# Altium integrated library ON Semi Signal Management Operational Amplifiers.IntLib: 435 symbols (part 1 of 12)
Pins are listed as number, name and electrical type; pins without a type are passive.

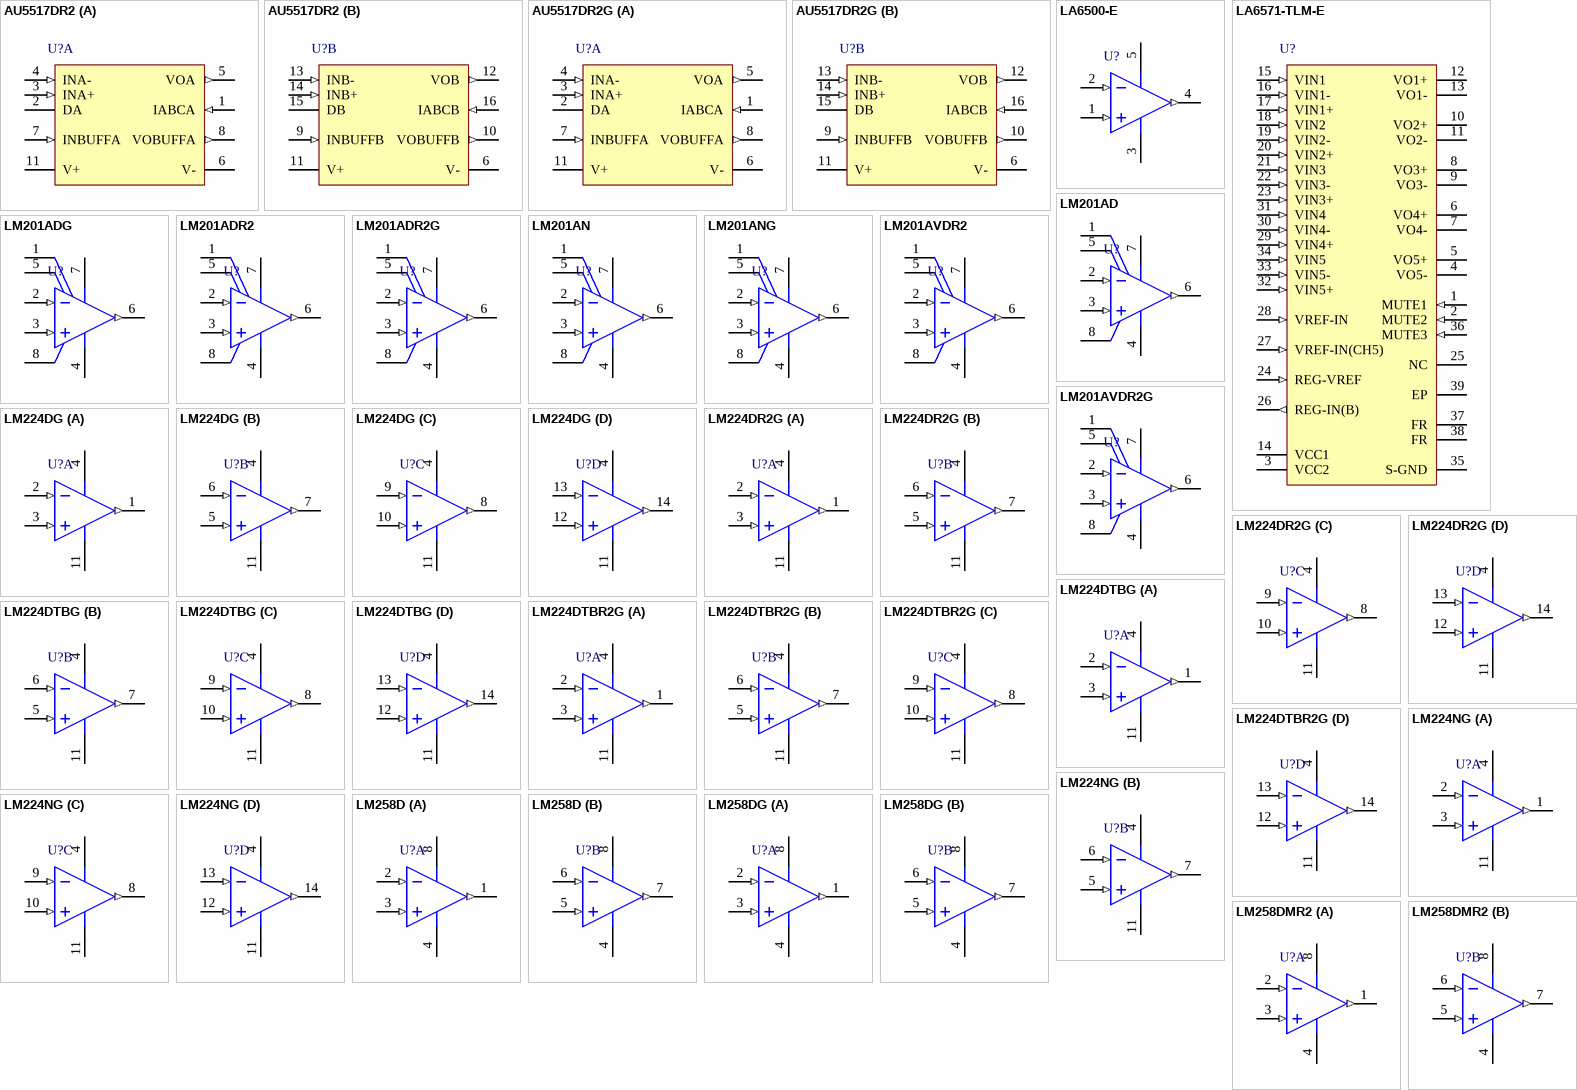
[diagram p0: symbols AU5517DR2 to LM258DMR2]

## AU5517DR2
designator U?
Dual Operational Transconductance Amplifier, -40 to 125 degC, 16-Pin SOIC, Tape and Reel; Manufacturer: On Semiconductor; PartNumber: AU5517DR2; GBW Typ (MHz): 2; SR Typ (V/uS): 50; DatasheetVersion: Rev. 4; PackageVersion: Rev. K, 12/2006; PackageReference: SOIC-16-751B-05; PackageDescription: 16-Pin Small Outline Integrated Circuit, Body 9.9 x 3.9 mm, Pitch 1.27 mm; Packing: Tape and Reel; RoHS: FALSE; Mounting Technology: Surface Mount; ComponentLink1Description: Manufacturer URL; ComponentLink1URL: http://www.onsemi.com/; ComponentLink2Description: Datasheet; ComponentLink2URL: http://www.onsemi.cn/pub_link/Collateral/NE5517-D.PDF; ComponentLink3Description: Package Specification; ComponentLink3URL: http://www.onsemi.com/pub_link/Collateral/751B-05.PDF
footprint ONSC-SOIC-16-751B-05_V (SOIC, 16-Leads, Body 10x4mm, Pitch 1.27mm)
pins on every part: 6 V- (power) "Negative Supply", 11 V+ (power) "Positive Supply"
part A pins: 1 IABCA (in) "Amplifier Bias Input A", 2 DA "Diode Bias A", 3 INA+ (in) "Non-inverted Input A", 4 INA- (in) "Inverted Input A", 5 VOA (out) "Output A", 7 INBUFFA (in) "Buffer Input A", 8 VOBUFFA (out) "Buffer Output A"
part B pins: 9 INBUFFB (in) "Buffer Input B", 10 VOBUFFB (out) "Buffer Output B", 12 VOB (out) "Output B", 13 INB- (in) "Inverted Input B", 14 INB+ (in) "Non-inverted Input B", 15 DB "Diode Bias B", 16 IABCB (in) "Amplifier Bias Input B"

## AU5517DR2G
designator U?
Dual Operational Transconductance Amplifier, -40 to 125 degC, 16-Pin SOIC, Pb-Free, Tape and Reel; Manufacturer: On Semiconductor; PartNumber: AU5517DR2G; GBW Typ (MHz): 2; SR Typ (V/uS): 50; DatasheetVersion: Rev. 4; PackageVersion: Rev. K, 12/2006; PackageReference: SOIC-16-751B-05; PackageDescription: 16-Pin Small Outline Integrated Circuit, Body 9.9 x 3.9 mm, Pitch 1.27 mm; Supplier 1: Digi-Key; Supplier Part Number 1: AU5517DR2GOSTR-ND; Supplier 2: Digi-Key; Supplier Part Number 2: AU5517DR2GOSCT-ND; Supplier 3: Mouser; Supplier Part Number 3: 863-AU5517DR2G; Packing: Tape and Reel; RoHS: TRUE; Mounting Technology: Surface Mount; ComponentLink1Description: Manufacturer URL; ComponentLink1URL: http://www.onsemi.com/; ComponentLink2Description: Datasheet; ComponentLink2URL: http://www.onsemi.cn/pub_link/Collateral/NE5517-D.PDF; ComponentLink3Description: Package Specification; ComponentLink3URL: http://www.onsemi.com/pub_link/Collateral/751B-05.PDF
footprint ONSC-SOIC-16-751B-05_V (SOIC, 16-Leads, Body 10x4mm, Pitch 1.27mm)
pins on every part: 6 V- (power) "Negative Supply", 11 V+ (power) "Positive Supply"
part A pins: 1 IABCA (in) "Amplifier Bias Input A", 2 DA "Diode Bias A", 3 INA+ (in) "Non-inverted Input A", 4 INA- (in) "Inverted Input A", 5 VOA (out) "Output A", 7 INBUFFA (in) "Buffer Input A", 8 VOBUFFA (out) "Buffer Output A"
part B pins: 9 INBUFFB (in) "Buffer Input B", 10 VOBUFFB (out) "Buffer Output B", 12 VOB (out) "Output B", 13 INB- (in) "Inverted Input B", 14 INB+ (in) "Non-inverted Input B", 15 DB "Diode Bias B", 16 IABCB (in) "Amplifier Bias Input B"

## LA6500-E
designator U?
Power Operational Amplifier, -20 to 75 degC, 5-Pin TO-220, Pb-Free, Fan-Fold; Manufacturer: On Semiconductor; PartNumber: LA6500-E; SR Typ (V/uS): 0.15; DatasheetVersion: Rev. 0; PackageVersion: Rev. A, 10/2013; PackageReference: TO-220-5H-5-221AJ; PackageDescription: 5-Pin Flange Mount, Body 10 x 4.5 mm, Pitch 1.7 mm; Supplier 1: Digi-Key; Supplier Part Number 1: LA6500-E-ND; Supplier 2: Newark; Supplier Part Number 2: 52T7913; Supplier 3: Mouser; Supplier Part Number 3: 863-LA6500-E; Packing: Fan-Fold; RoHS: TRUE; Mounting Technology: Through Hole; ComponentLink1Description: Manufacturer URL; ComponentLink1URL: http://www.onsemi.com/; ComponentLink2Description: Datasheet; ComponentLink2URL: http://www.onsemi.cn/pub_link/Collateral/LA6500-D.PDF; ComponentLink3Description: Package Specification; ComponentLink3URL: http://www.onsemi.cn/pub_link/Collateral/221AJ.PDF
footprint ONSC-TO-220-5H-5-221AJ (FM, 5-Leads, Body 10.2x4.7mm, Pitch 1.7mm)
pins: 1 VIN+ (in), 2 VIN- (in), 3 VEE (power), 4 OUT (out), 5 VCC (power)

## LA6571-TLM-E
designator U?
5 CH Driver for Mini Disk and Compact Disk, -30 to 85 degC, 36-Pin HSOP36R, Pb-Free, Tape and Reel; Manufacturer: On Semiconductor; PartNumber: LA6571-TLM-E; SR Typ (V/uS): 0.5; DatasheetVersion: Rev. 0; PackageVersion: Jun-13; PackageReference: HSOP36R-36; PackageDescription: 36-Pin Small Outline Package, Body 17.8 x 7.9 mm, Pitch 0.8 mm; Supplier 1: Digi-Key; Supplier Part Number 1: LA6571-TLM-E-ND; Supplier 2: Mouser; Supplier Part Number 2: 863-LA6571-TLM-E; Packing: Tape and Reel; RoHS: TRUE; Mounting Technology: Surface Mount; ComponentLink1Description: Manufacturer URL; ComponentLink1URL: http://www.onsemi.com/; ComponentLink2Description: Datasheet; ComponentLink2URL: http://www.onsemi.com/pub_link/Collateral/EN7739-D.PDF; ComponentLink3Description: Package Specification; ComponentLink3URL: http://www.onsemi.cn/pub_link/Collateral/EN7739-D.PDF
footprint ONSC-HSOP36R-36_N (SOP, 36-Leads, Body 17.8x7.9mm, Pitch 0.8mm, Thermal Pad 6.2x4.9mm, IPC Medium Density)
footprint ONSC-HSOP36R-36_L (SOP, 36-Leads, Body 17.8x7.9mm, Pitch 0.8mm, Thermal Pad 6.2x4.9mm, IPC High Density)
footprint ONSC-HSOP36R-36_M (SOP, 36-Leads, Body 17.8x7.9mm, Pitch 0.8mm, Thermal Pad 6.2x4.9mm, IPC Low Density)
pins: 1 MUTE1 (in) "Turns ON/OFF  the output for MUTE1:CH1,2  MUTE2:CH3, 4 and MUTE3:CH5.Each MUTE operates independently.MUTE:H output ON MUTE: L output OFF  With the output OFF,the output has a high impedance.", 2 MUTE2 (in) "Turns ON/OFF  the output for MUTE1:CH1,2  MUTE2:CH3, 4 and MUTE3:CH5.Each MUTE operates independently.MUTE:H output ON MUTE: L output OFF  With the output OFF,the output has a high impedance.", 3 VCC2 (power), 4 VO5- (hiz) "Each output", 5 VO5+ (hiz) "Each output", 6 VO4+ (hiz) "Each output", 7 VO4- (hiz) "Each output", 8 VO3+ (hiz) "Each output", 9 VO3- (hiz) "Each output", 10 VO2+ (hiz) "Each output", 11 VO2- (hiz) "Each output", 12 VO1+ (hiz) "Each output", 13 VO1- (hiz) "Each output", 14 VCC1 (power), 15 VIN1 (in) "Each input pin", 16 VIN1- (in) "Each input pin", 17 VIN1+ (in) "Each input pin", 18 VIN2 (in) "Each input pin", 19 VIN2- (in) "Each input pin", 20 VIN2+ (in) "Each input pin", 21 VIN3 (in) "Each input pin", 22 VIN3- (in) "Each input pin", 23 VIN3+ (in) "Each input pin", 24 REG-VREF (in), 25 NC, 26 REG-IN(B) (out), 27 VREF-IN(CH5) (in), 28 VREF-IN (in), 29 VIN4+ (in) "Each input pin", 30 VIN4- (in) "Each input pin", 31 VIN4 (in) "Each input pin", 32 VIN5+ (in) "Each input pin", 33 VIN5- (in) "Each input pin", 34 VIN5 (in) "Each input pin", 35 S-GND (power), 36 MUTE3 (in) "Turns ON/OFF  the output for MUTE1:CH1,2  MUTE2:CH3, 4 and MUTE3:CH5.Each MUTE operates independently.MUTE:H output ON MUTE: L output OFF  With the output OFF,the output has a high impedance.", 37 FR (power), 38 FR (power), 39 EP

## LM201AD
designator U?
Non Compensated Single Operational Amplifier, -25 to 85 degC, 8-Pin SOIC, Tube; Manufacturer: On Semiconductor; PartNumber: LM201AD; DatasheetVersion: Rev. 11; PackageVersion: Rev. AK, 02/2011; PackageReference: SOIC-8-751-07; PackageDescription: 8-Pin Small Outline Integrated Circuit, Body 4.9 x 3.9 mm, Pitch 1.27 mm; Packing: Tube; RoHS: FALSE; Mounting Technology: Surface Mount; ComponentLink1Description: Manufacturer URL; ComponentLink1URL: http://www.onsemi.com/; ComponentLink2Description: Datasheet; ComponentLink2URL: http://www.onsemi.cn/pub_link/Collateral/LM301A-D.PDF; ComponentLink3Description: Package Specification; ComponentLink3URL: http://www.onsemi.com/pub_link/Collateral/751-07.PDF
footprint ONSC-SOIC-8-751-07_V (SOIC, 8-Leads, Body 4.9x3.9mm, Pitch 1.27mm)
pins: 1 BALANCE, 2 IN- (in), 3 IN+ (in), 4 VEE (power), 5 BALANCE, 6 OUT (out), 7 VCC (power), 8 COMPENSATION

## LM201ADG
designator U?
Non Compensated Single Operational Amplifier, -25 to 85 degC, 8-Pin SOIC, Pb-Free, Tube; Manufacturer: On Semiconductor; PartNumber: LM201ADG; DatasheetVersion: Rev. 11; PackageVersion: Rev. AK, 02/2011; PackageReference: SOIC-8-751-07; PackageDescription: 8-Pin Small Outline Integrated Circuit, Body 4.9 x 3.9 mm, Pitch 1.27 mm; Supplier 1: Digi-Key; Supplier Part Number 1: LM201ADGOS-ND; Supplier 2: Farnell; Supplier Part Number 2: 1345337; Supplier 3: Newark; Supplier Part Number 3: 41K9832; Supplier 4: Mouser; Supplier Part Number 4: 863-LM201ADG; Packing: Tube; RoHS: TRUE; Mounting Technology: Surface Mount; ComponentLink1Description: Manufacturer URL; ComponentLink1URL: http://www.onsemi.com/; ComponentLink2Description: Datasheet; ComponentLink2URL: http://www.onsemi.cn/pub_link/Collateral/LM301A-D.PDF; ComponentLink3Description: Package Specification; ComponentLink3URL: http://www.onsemi.com/pub_link/Collateral/751-07.PDF
footprint ONSC-SOIC-8-751-07_V (SOIC, 8-Leads, Body 4.9x3.9mm, Pitch 1.27mm)
pins: 1 BALANCE, 2 IN- (in), 3 IN+ (in), 4 VEE (power), 5 BALANCE, 6 OUT (out), 7 VCC (power), 8 COMPENSATION

## LM201ADR2
designator U?
Non Compensated Single Operational Amplifier, -25 to 85 degC, 8-Pin SOIC, Tape and Reel; Manufacturer: On Semiconductor; PartNumber: LM201ADR2; DatasheetVersion: Rev. 11; PackageVersion: Rev. AK, 02/2011; PackageReference: SOIC-8-751-07; PackageDescription: 8-Pin Small Outline Integrated Circuit, Body 4.9 x 3.9 mm, Pitch 1.27 mm; Packing: Tape and Reel; RoHS: FALSE; Mounting Technology: Surface Mount; ComponentLink1Description: Manufacturer URL; ComponentLink1URL: http://www.onsemi.com/; ComponentLink2Description: Datasheet; ComponentLink2URL: http://www.onsemi.cn/pub_link/Collateral/LM301A-D.PDF; ComponentLink3Description: Package Specification; ComponentLink3URL: http://www.onsemi.com/pub_link/Collateral/751-07.PDF
footprint ONSC-SOIC-8-751-07_V (SOIC, 8-Leads, Body 4.9x3.9mm, Pitch 1.27mm)
pins: 1 BALANCE, 2 IN- (in), 3 IN+ (in), 4 VEE (power), 5 BALANCE, 6 OUT (out), 7 VCC (power), 8 COMPENSATION

## LM201ADR2G
designator U?
Non Compensated Single Operational Amplifier, -25 to 85 degC, 8-Pin SOIC, Pb-Free, Tape and Reel; Manufacturer: On Semiconductor; PartNumber: LM201ADR2G; DatasheetVersion: Rev. 11; PackageVersion: Rev. AK, 02/2011; PackageReference: SOIC-8-751-07; PackageDescription: 8-Pin Small Outline Integrated Circuit, Body 4.9 x 3.9 mm, Pitch 1.27 mm; Supplier 1: Digi-Key; Supplier Part Number 1: LM201ADR2GOSTR-ND; Supplier 2: Digi-Key; Supplier Part Number 2: LM201ADR2GOSCT-ND; Supplier 3: Digi-Key; Supplier Part Number 3: LM201ADR2GOSDKR-ND; Supplier 4: Newark; Supplier Part Number 4: 45J0708; Supplier 5: Mouser; Supplier Part Number 5: 863-LM201ADR2G; Packing: Tape and Reel; RoHS: TRUE; Mounting Technology: Surface Mount; ComponentLink1Description: Manufacturer URL; ComponentLink1URL: http://www.onsemi.com/; ComponentLink2Description: Datasheet; ComponentLink2URL: http://www.onsemi.cn/pub_link/Collateral/LM301A-D.PDF; ComponentLink3Description: Package Specification; ComponentLink3URL: http://www.onsemi.com/pub_link/Collateral/751-07.PDF
footprint ONSC-SOIC-8-751-07_V (SOIC, 8-Leads, Body 4.9x3.9mm, Pitch 1.27mm)
pins: 1 BALANCE, 2 IN- (in), 3 IN+ (in), 4 VEE (power), 5 BALANCE, 6 OUT (out), 7 VCC (power), 8 COMPENSATION

## LM201AN
designator U?
Non Compensated Single Operational Amplifier, -25 to 85 degC, 8-Pin PDIP, Tube; Manufacturer: On Semiconductor; PartNumber: LM201AN; DatasheetVersion: Rev. 11; PackageVersion: Rev. M, 04/2010; PackageReference: PDIP-8-626-05; PackageDescription: 8-Pin Plastic Dual-In Line Package, Body 9.52 x 6.605 mm, Pitch 2.54 mm; Supplier 1: Mouser; Supplier Part Number 1: 863-LM201AN; Packing: Tube; RoHS: FALSE; Mounting Technology: Through Hole; ComponentLink1Description: Manufacturer URL; ComponentLink1URL: http://www.onsemi.com/; ComponentLink2Description: Datasheet; ComponentLink2URL: http://www.onsemi.cn/pub_link/Collateral/LM301A-D.PDF; ComponentLink3Description: Package Specification; ComponentLink3URL: http://www.onsemi.com/pub_link/Collateral/LM211-D.PDF
footprint ONSC-PDIP-8-626-05_M (DIP, 8-Leads, Body 10x7.1mm, Pitch 2.54mm)
pins: 1 BALANCE, 2 IN- (in), 3 IN+ (in), 4 VEE (power), 5 BALANCE, 6 OUT (out), 7 VCC (power), 8 COMPENSATION

## LM201ANG
designator U?
Non Compensated Single Operational Amplifier, -25 to 85 degC, 8-Pin PDIP, Pb-Free, Tube; Manufacturer: On Semiconductor; PartNumber: LM201ANG; DatasheetVersion: Rev. 11; PackageVersion: Rev. M, 04/2010; PackageReference: PDIP-8-626-05; PackageDescription: 8-Pin Plastic Dual-In Line Package, Body 9.52 x 6.605 mm, Pitch 2.54 mm; Supplier 1: Digi-Key; Supplier Part Number 1: LM201ANGOS-ND; Supplier 2: Newark; Supplier Part Number 2: 26K3595; Supplier 3: Mouser; Supplier Part Number 3: 863-LM201ANG; Packing: Tube; RoHS: TRUE; Mounting Technology: Through Hole; ComponentLink1Description: Manufacturer URL; ComponentLink1URL: http://www.onsemi.com/; ComponentLink2Description: Datasheet; ComponentLink2URL: http://www.onsemi.cn/pub_link/Collateral/LM301A-D.PDF; ComponentLink3Description: Package Specification; ComponentLink3URL: http://www.onsemi.com/pub_link/Collateral/LM211-D.PDF
footprint ONSC-PDIP-8-626-05_M (DIP, 8-Leads, Body 10x7.1mm, Pitch 2.54mm)
pins: 1 BALANCE, 2 IN- (in), 3 IN+ (in), 4 VEE (power), 5 BALANCE, 6 OUT (out), 7 VCC (power), 8 COMPENSATION

## LM201AVDR2
designator U?
Non Compensated Single Operational Amplifier, -40 to 105 degC, 8-Pin SOIC, Tape and Reel; Manufacturer: On Semiconductor; PartNumber: LM201AVDR2; DatasheetVersion: Rev. 11; PackageVersion: Rev. AK, 02/2011; PackageReference: SOIC-8-751-07; PackageDescription: 8-Pin Small Outline Integrated Circuit, Body 4.9 x 3.9 mm, Pitch 1.27 mm; Supplier 1: Digi-Key; Supplier Part Number 1: LM201AVDR2-ND; Packing: Tape and Reel; RoHS: FALSE; Mounting Technology: Surface Mount; ComponentLink1Description: Manufacturer URL; ComponentLink1URL: http://www.onsemi.com/; ComponentLink2Description: Datasheet; ComponentLink2URL: http://www.onsemi.cn/pub_link/Collateral/LM301A-D.PDF; ComponentLink3Description: Package Specification; ComponentLink3URL: http://www.onsemi.com/pub_link/Collateral/751-07.PDF
footprint ONSC-SOIC-8-751-07_V (SOIC, 8-Leads, Body 4.9x3.9mm, Pitch 1.27mm)
pins: 1 BALANCE, 2 IN- (in), 3 IN+ (in), 4 VEE (power), 5 BALANCE, 6 OUT (out), 7 VCC (power), 8 COMPENSATION

## LM201AVDR2G
designator U?
Non Compensated Single Operational Amplifier, -40 to 105 degC, 8-Pin SOIC, Pb-Free, Tape and Reel; Manufacturer: On Semiconductor; PartNumber: LM201AVDR2G; DatasheetVersion: Rev. 11; PackageVersion: Rev. AK, 02/2011; PackageReference: SOIC-8-751-07; PackageDescription: 8-Pin Small Outline Integrated Circuit, Body 4.9 x 3.9 mm, Pitch 1.27 mm; Supplier 1: Digi-Key; Supplier Part Number 1: LM201AVDR2GOSTR-ND; Supplier 2: Digi-Key; Supplier Part Number 2: LM201AVDR2GOSCT-ND; Supplier 3: Digi-Key; Supplier Part Number 3: LM201AVDR2GOSDKR-ND; Supplier 4: Mouser; Supplier Part Number 4: 863-LM201AVDR2G; Packing: Tape and Reel; RoHS: TRUE; Mounting Technology: Surface Mount; ComponentLink1Description: Manufacturer URL; ComponentLink1URL: http://www.onsemi.com/; ComponentLink2Description: Datasheet; ComponentLink2URL: http://www.onsemi.cn/pub_link/Collateral/LM301A-D.PDF; ComponentLink3Description: Package Specification; ComponentLink3URL: http://www.onsemi.com/pub_link/Collateral/751-07.PDF
footprint ONSC-SOIC-8-751-07_V (SOIC, 8-Leads, Body 4.9x3.9mm, Pitch 1.27mm)
pins: 1 BALANCE, 2 IN- (in), 3 IN+ (in), 4 VEE (power), 5 BALANCE, 6 OUT (out), 7 VCC (power), 8 COMPENSATION

## LM224DG
designator U?
Single Supply Quad Operational Amplifier, 3 to 32 V, -25 to 85 degC, 14-Pin SOIC, Pb-Free, Tube; Manufacturer: On Semiconductor; PartNumber: LM224DG; VCC Max (V): 32; VCC Min (V): 3; DatasheetVersion: Rev. 25; PackageVersion: Rev. K, 05/2011; PackageReference: SOIC-14-751A-03; PackageDescription: 14-Pin Small Outline Integrated Circuit, Body 8.65 x 3.9 mm, Pitch 1.27 mm; Supplier 1: Digi-Key; Supplier Part Number 1: LM224DGOS-ND; Supplier 2: Farnell; Supplier Part Number 2: 1211091; Supplier 3: Newark; Supplier Part Number 3: 71J4990; Supplier 4: Mouser; Supplier Part Number 4: 863-LM224DG; Packing: Tube; RoHS: TRUE; Mounting Technology: Surface Mount; ComponentLink1Description: Manufacturer URL; ComponentLink1URL: http://www.onsemi.com/; ComponentLink2Description: Datasheet; ComponentLink2URL: http://www.onsemi.cn/pub_link/Collateral/LM324-D.PDF; ComponentLink3Description: Package Specification; ComponentLink3URL: http://www.onsemi.com/pub_link/Collateral/751A-03.PDF
footprint ONSC-SOIC-14-751A-03_V (SOIC, 14-Leads, Body 8.75x4mm, Pitch 1.27mm)
pins on every part: 4 VCC (power), 11 VEE/GND (power)
part A pins: 1 OUT1 (out), 2 IN1- (in), 3 IN1+ (in)
part B pins: 5 IN2+ (in), 6 IN2- (in), 7 OUT2 (out)
part C pins: 8 OUT3 (out), 9 IN3- (in), 10 IN3+ (in)
part D pins: 12 IN4+ (in), 13 IN4- (in), 14 OUT4 (out)

## LM224DR2G
designator U?
Single Supply Quad Operational Amplifier, 3 to 32 V, -25 to 85 degC, 14-Pin SOIC, Pb-Free, Tape and Reel; Manufacturer: On Semiconductor; PartNumber: LM224DR2G; VCC Max (V): 32; VCC Min (V): 3; DatasheetVersion: Rev. 25; PackageVersion: Rev. K, 05/2011; PackageReference: SOIC-14-751A-03; PackageDescription: 14-Pin Small Outline Integrated Circuit, Body 8.65 x 3.9 mm, Pitch 1.27 mm; Supplier 1: Digi-Key; Supplier Part Number 1: LM224DR2GOSTR-ND; Supplier 2: Digi-Key; Supplier Part Number 2: LM224DR2GOSCT-ND; Supplier 3: Digi-Key; Supplier Part Number 3: LM224DR2GOSDKR-ND; Supplier 4: Farnell; Supplier Part Number 4: 1426352; Supplier 5: Farnell; Supplier Part Number 5: 1426352RL; Supplier 6: Farnell; Supplier Part Number 6: 1155777; Supplier 7: Newark; Supplier Part Number 7: 98H0552; Supplier 8: Mouser; Supplier Part Number 8: 863-LM224DR2G; Packing: Tape and Reel; RoHS: TRUE; Mounting Technology: Surface Mount; ComponentLink1Description: Manufacturer URL; ComponentLink1URL: http://www.onsemi.com/; ComponentLink2Description: Datasheet; ComponentLink2URL: http://www.onsemi.cn/pub_link/Collateral/LM324-D.PDF; ComponentLink3Description: Package Specification; ComponentLink3URL: http://www.onsemi.com/pub_link/Collateral/751A-03.PDF
footprint ONSC-SOIC-14-751A-03_V (SOIC, 14-Leads, Body 8.75x4mm, Pitch 1.27mm)
pins on every part: 4 VCC (power), 11 VEE/GND (power)
part A pins: 1 OUT1 (out), 2 IN1- (in), 3 IN1+ (in)
part B pins: 5 IN2+ (in), 6 IN2- (in), 7 OUT2 (out)
part C pins: 8 OUT3 (out), 9 IN3- (in), 10 IN3+ (in)
part D pins: 12 IN4+ (in), 13 IN4- (in), 14 OUT4 (out)

## LM224DTBG
designator U?
Single Supply Quad Operational Amplifier, 3 to 32 V, -25 to 85 degC, 14-Pin TSSOP, Pb-Free, Tube; Manufacturer: On Semiconductor; PartNumber: LM224DTBG; VCC Max (V): 32; VCC Min (V): 3; DatasheetVersion: Rev. 25; PackageVersion: Rev. B, 10/2006; PackageReference: TSSOP-14-948G-01; PackageDescription: 14-Pin Small Outline Package, Body 5 x 4.4 mm, Pitch 0.65 mm; Supplier 1: Digi-Key; Supplier Part Number 1: LM224DTBG-ND; Supplier 2: Newark; Supplier Part Number 2: 41K9835; Supplier 3: Mouser; Supplier Part Number 3: 863-LM224DTBG; Packing: Tube; RoHS: TRUE; Mounting Technology: Surface Mount; ComponentLink1Description: Manufacturer URL; ComponentLink1URL: http://www.onsemi.com/; ComponentLink2Description: Datasheet; ComponentLink2URL: http://www.onsemi.cn/pub_link/Collateral/LM324-D.PDF; ComponentLink3Description: Package Specification; ComponentLink3URL: http://www.onsemi.com/pub_link/Collateral/948G-01.PDF
footprint ONSC-TSSOP-14-948G-01_V (SOP, 14-Leads, Body 5.1x4.5mm, Pitch 0.65mm)
pins on every part: 4 VCC (power), 11 VEE/GND (power)
part A pins: 1 OUT1 (out), 2 IN1- (in), 3 IN1+ (in)
part B pins: 5 IN2+ (in), 6 IN2- (in), 7 OUT2 (out)
part C pins: 8 OUT3 (out), 9 IN3- (in), 10 IN3+ (in)
part D pins: 12 IN4+ (in), 13 IN4- (in), 14 OUT4 (out)

## LM224DTBR2G
designator U?
Single Supply Quad Operational Amplifier, 3 to 32 V, -25 to 85 degC, 14-Pin TSSOP, Pb-Free, Tape and Reel; Manufacturer: On Semiconductor; PartNumber: LM224DTBR2G; VCC Max (V): 32; VCC Min (V): 3; DatasheetVersion: Rev. 25; PackageVersion: Rev. B, 10/2006; PackageReference: TSSOP-14-948G-01; PackageDescription: 14-Pin Small Outline Package, Body 5 x 4.4 mm, Pitch 0.65 mm; Supplier 1: Digi-Key; Supplier Part Number 1: LM224DTBR2GOSTR-ND; Supplier 2: Digi-Key; Supplier Part Number 2: LM224DTBR2GOSCT-ND; Supplier 3: Digi-Key; Supplier Part Number 3: LM224DTBR2GOSDKR-ND; Supplier 4: Mouser; Supplier Part Number 4: 863-LM224DTBR2G; Packing: Tape and Reel; RoHS: TRUE; Mounting Technology: Surface Mount; ComponentLink1Description: Manufacturer URL; ComponentLink1URL: http://www.onsemi.com/; ComponentLink2Description: Datasheet; ComponentLink2URL: http://www.onsemi.cn/pub_link/Collateral/LM324-D.PDF; ComponentLink3Description: Package Specification; ComponentLink3URL: http://www.onsemi.com/pub_link/Collateral/948G-01.PDF
footprint ONSC-TSSOP-14-948G-01_V (SOP, 14-Leads, Body 5.1x4.5mm, Pitch 0.65mm)
pins on every part: 4 VCC (power), 11 VEE/GND (power)
part A pins: 1 OUT1 (out), 2 IN1- (in), 3 IN1+ (in)
part B pins: 5 IN2+ (in), 6 IN2- (in), 7 OUT2 (out)
part C pins: 8 OUT3 (out), 9 IN3- (in), 10 IN3+ (in)
part D pins: 12 IN4+ (in), 13 IN4- (in), 14 OUT4 (out)

## LM224NG
designator U?
Single Supply Quad Operational Amplifier, 3 to 32 V, -25 to 85 degC, 14-Pin PDIP, Pb-Free, Tube; Manufacturer: On Semiconductor; PartNumber: LM224NG; VCC Max (V): 32; VCC Min (V): 3; DatasheetVersion: Rev. 25; PackageVersion: Rev. R, 06/2013; PackageReference: PDIP-14-646-06; PackageDescription: 14-Pin Plastic Dual-In Line Package, Body 19.18 x 6.605 mm, Pitch 2.54 mm; Supplier 1: Digi-Key; Supplier Part Number 1: LM224NGOS-ND; Supplier 2: Farnell; Supplier Part Number 2: 1211137; Supplier 3: Newark; Supplier Part Number 3: 97K3215; Supplier 4: Newark; Supplier Part Number 4: 45J0710; Supplier 5: Mouser; Supplier Part Number 5: 863-LM224NG; Packing: Tube; RoHS: TRUE; Mounting Technology: Through Hole; ComponentLink1Description: Manufacturer URL; ComponentLink1URL: http://www.onsemi.com/; ComponentLink2Description: Datasheet; ComponentLink2URL: http://www.onsemi.cn/pub_link/Collateral/LM324-D.PDF; ComponentLink3Description: Package Specification; ComponentLink3URL: http://www.onsemi.com/pub_link/Collateral/646-06.PDF
footprint ONSC-PDIP-14-646-06 (DIP, 14-Leads, Body 19.7x7.1mm, Pitch 2.54mm)
pins on every part: 4 VCC (power), 11 VEE/GND (power)
part A pins: 1 OUT1 (out), 2 IN1- (in), 3 IN1+ (in)
part B pins: 5 IN2+ (in), 6 IN2- (in), 7 OUT2 (out)
part C pins: 8 OUT3 (out), 9 IN3- (in), 10 IN3+ (in)
part D pins: 12 IN4+ (in), 13 IN4- (in), 14 OUT4 (out)

## LM258D
designator U?
Single Supply Dual Operational Amplifier, 3 to 32 V, -25 to 85 degC, 8-Pin SOIC, Tube; Manufacturer: On Semiconductor; PartNumber: LM258D; VCC Max (V): 32; VCC Min (V): 3; DatasheetVersion: Rev. 27; PackageVersion: Rev. AK, 02/2011; PackageReference: SOIC-8-751-07; PackageDescription: 8-Pin Small Outline Integrated Circuit, Body 4.9 x 3.9 mm, Pitch 1.27 mm; Packing: Tube; RoHS: FALSE; Mounting Technology: Surface Mount; ComponentLink1Description: Manufacturer URL; ComponentLink1URL: http://www.onsemi.com/; ComponentLink2Description: Datasheet; ComponentLink2URL: http://www.onsemi.cn/pub_link/Collateral/LM358-D.PDF; ComponentLink3Description: Package Specification; ComponentLink3URL: http://www.onsemi.com/pub_link/Collateral/751-07.PDF
footprint ONSC-SOIC-8-751-07_V (SOIC, 8-Leads, Body 4.9x3.9mm, Pitch 1.27mm)
pins on every part: 4 VEE/GND (power), 8 VCC (power)
part A pins: 1 OUTA (out), 2 INA- (in), 3 INA+ (in)
part B pins: 5 INB+ (in), 6 INB- (in), 7 OUTB (out)

## LM258DG
designator U?
Single Supply Dual Operational Amplifier, 3 to 32 V, -25 to 85 degC, 8-Pin SOIC, Pb-Free, Tube; Manufacturer: On Semiconductor; PartNumber: LM258DG; VCC Max (V): 32; VCC Min (V): 3; DatasheetVersion: Rev. 27; PackageVersion: Rev. AK, 02/2011; PackageReference: SOIC-8-751-07; PackageDescription: 8-Pin Small Outline Integrated Circuit, Body 4.9 x 3.9 mm, Pitch 1.27 mm; Supplier 1: Digi-Key; Supplier Part Number 1: LM258DGOS-ND; Supplier 2: Farnell; Supplier Part Number 2: 1211094; Supplier 3: Newark; Supplier Part Number 3: 71J4994; Supplier 4: Mouser; Supplier Part Number 4: 863-LM258DG; Packing: Tube; RoHS: TRUE; Mounting Technology: Surface Mount; ComponentLink1Description: Manufacturer URL; ComponentLink1URL: http://www.onsemi.com/; ComponentLink2Description: Datasheet; ComponentLink2URL: http://www.onsemi.cn/pub_link/Collateral/LM358-D.PDF; ComponentLink3Description: Package Specification; ComponentLink3URL: http://www.onsemi.com/pub_link/Collateral/751-07.PDF
footprint ONSC-SOIC-8-751-07_V (SOIC, 8-Leads, Body 4.9x3.9mm, Pitch 1.27mm)
pins on every part: 4 VEE/GND (power), 8 VCC (power)
part A pins: 1 OUTA (out), 2 INA- (in), 3 INA+ (in)
part B pins: 5 INB+ (in), 6 INB- (in), 7 OUTB (out)

## LM258DMR2
designator U?
Single Supply Dual Operational Amplifier, 3 to 32 V, -25 to 85 degC, 8-Pin MICRO, Tape and Reel; Manufacturer: On Semiconductor; PartNumber: LM258DMR2; VCC Max (V): 32; VCC Min (V): 3; DatasheetVersion: Rev. 27; PackageVersion: Rev. H; PackageReference: MICRO-8-846A-02_H; PackageDescription: 8-Pin Small Outline Package, Body 3 x 3 mm, Pitch 0.65 mm; Supplier 1: Digi-Key; Supplier Part Number 1: LM258DMR2-ND; Packing: Tape and Reel; RoHS: FALSE; Mounting Technology: Surface Mount; ComponentLink1Description: Manufacturer URL; ComponentLink1URL: http://www.onsemi.com/; ComponentLink2Description: Datasheet; ComponentLink2URL: http://www.onsemi.cn/pub_link/Collateral/LM358-D.PDF; ComponentLink3Description: Package Specification; ComponentLink3URL: http://www.onsemi.com/pub_link/Collateral/NLSV2T244-D.PDF
footprint ONSC-MICRO-8-846A-02_H_V (SOIC, 8-Leads, Body 3.1x3.1mm, Pitch 0.65mm)
pins on every part: 4 VEE/GND (power), 8 VCC (power)
part A pins: 1 OUTA (out), 2 INA- (in), 3 INA+ (in)
part B pins: 5 INB+ (in), 6 INB- (in), 7 OUTB (out)

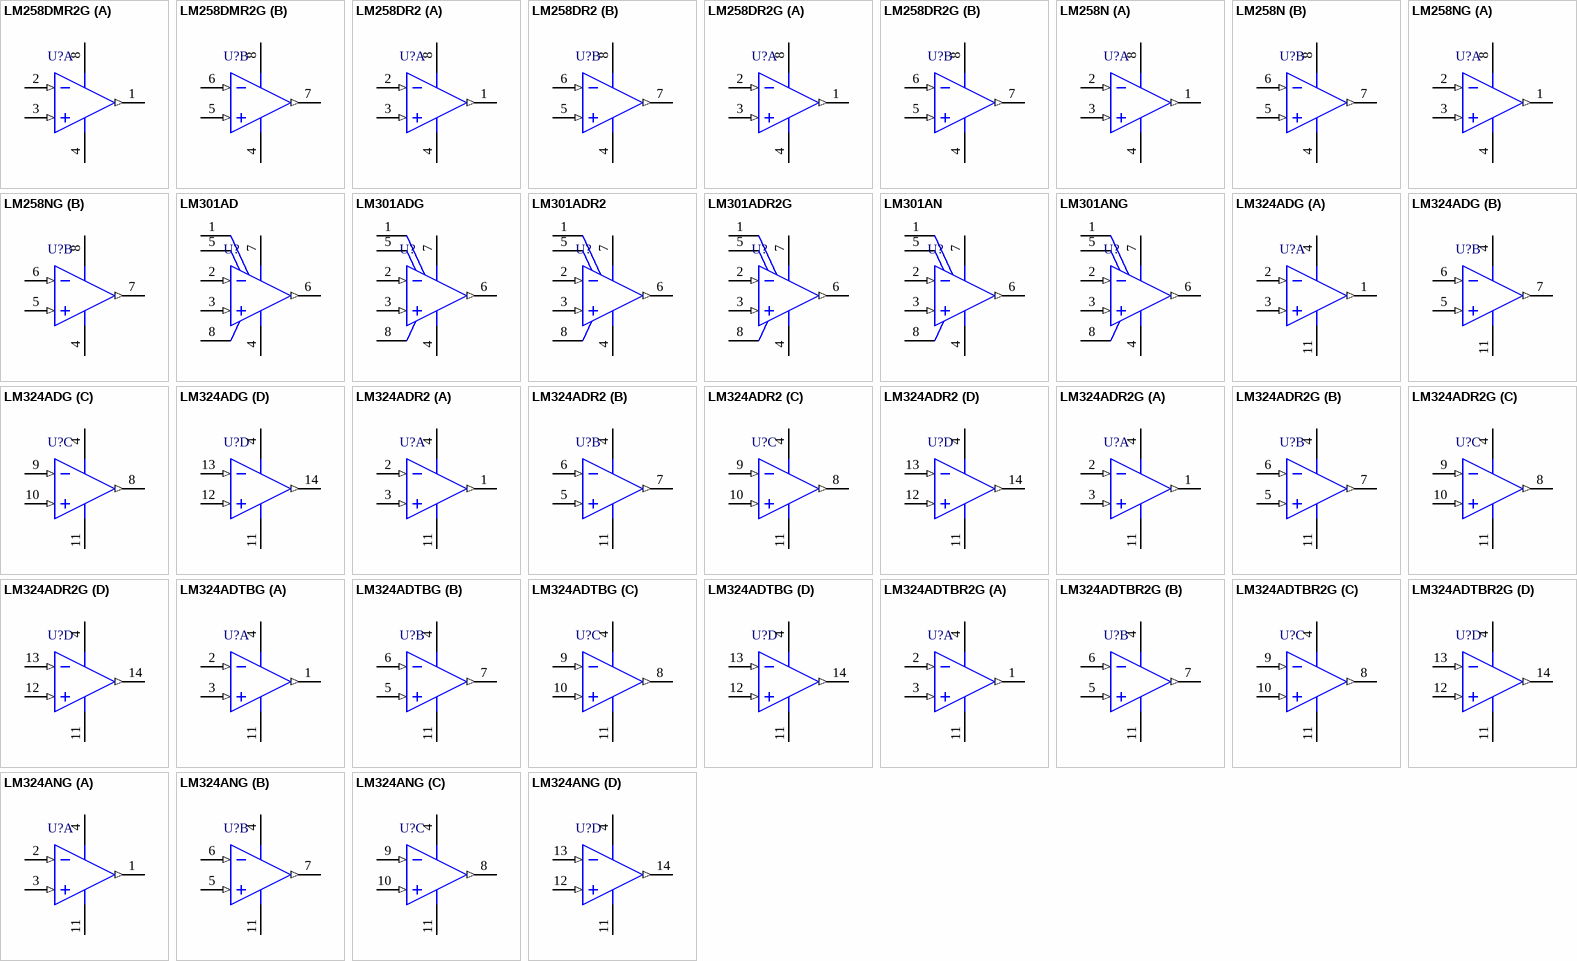
[diagram p1: symbols LM258DMR2G to LM324ANG]

## LM258DMR2G
designator U?
Single Supply Dual Operational Amplifier, 3 to 32 V, -25 to 85 degC, 8-Pin MICRO, Pb-Free, Tape and Reel; Manufacturer: On Semiconductor; PartNumber: LM258DMR2G; VCC Max (V): 32; VCC Min (V): 3; DatasheetVersion: Rev. 27; PackageVersion: Rev. H; PackageReference: MICRO-8-846A-02_H; PackageDescription: 8-Pin Small Outline Package, Body 3 x 3 mm, Pitch 0.65 mm; Supplier 1: Digi-Key; Supplier Part Number 1: LM258DMR2GOSTR-ND; Supplier 2: Digi-Key; Supplier Part Number 2: LM258DMR2GOSCT-ND; Supplier 3: Digi-Key; Supplier Part Number 3: LM258DMR2GOSDKR-ND; Supplier 4: Newark; Supplier Part Number 4: 26K3606; Supplier 5: Mouser; Supplier Part Number 5: 863-LM258DMR2G; Packing: Tape and Reel; RoHS: TRUE; Mounting Technology: Surface Mount; ComponentLink1Description: Manufacturer URL; ComponentLink1URL: http://www.onsemi.com/; ComponentLink2Description: Datasheet; ComponentLink2URL: http://www.onsemi.cn/pub_link/Collateral/LM358-D.PDF; ComponentLink3Description: Package Specification; ComponentLink3URL: http://www.onsemi.com/pub_link/Collateral/NLSV2T244-D.PDF
footprint ONSC-MICRO-8-846A-02_H_V (SOIC, 8-Leads, Body 3.1x3.1mm, Pitch 0.65mm)
pins on every part: 4 VEE/GND (power), 8 VCC (power)
part A pins: 1 OUTA (out), 2 INA- (in), 3 INA+ (in)
part B pins: 5 INB+ (in), 6 INB- (in), 7 OUTB (out)

## LM258DR2
designator U?
Single Supply Dual Operational Amplifier, 3 to 32 V, -25 to 85 degC, 8-Pin SOIC, Tape and Reel; Manufacturer: On Semiconductor; PartNumber: LM258DR2; VCC Max (V): 32; VCC Min (V): 3; DatasheetVersion: Rev. 27; PackageVersion: Rev. AK, 02/2011; PackageReference: SOIC-8-751-07; PackageDescription: 8-Pin Small Outline Integrated Circuit, Body 4.9 x 3.9 mm, Pitch 1.27 mm; Supplier 1: Digi-Key; Supplier Part Number 1: LM258DR2OSCT-ND; Packing: Tape and Reel; RoHS: FALSE; Mounting Technology: Surface Mount; ComponentLink1Description: Manufacturer URL; ComponentLink1URL: http://www.onsemi.com/; ComponentLink2Description: Datasheet; ComponentLink2URL: http://www.onsemi.cn/pub_link/Collateral/LM358-D.PDF; ComponentLink3Description: Package Specification; ComponentLink3URL: http://www.onsemi.com/pub_link/Collateral/751-07.PDF
footprint ONSC-SOIC-8-751-07_V (SOIC, 8-Leads, Body 4.9x3.9mm, Pitch 1.27mm)
pins on every part: 4 VEE/GND (power), 8 VCC (power)
part A pins: 1 OUTA (out), 2 INA- (in), 3 INA+ (in)
part B pins: 5 INB+ (in), 6 INB- (in), 7 OUTB (out)

## LM258DR2G
designator U?
Single Supply Dual Operational Amplifier, 3 to 32 V, -25 to 85 degC, 8-Pin SOIC, Pb-Free, Tape and Reel; Manufacturer: On Semiconductor; PartNumber: LM258DR2G; VCC Max (V): 32; VCC Min (V): 3; DatasheetVersion: Rev. 27; PackageVersion: Rev. AK, 02/2011; PackageReference: SOIC-8-751-07; PackageDescription: 8-Pin Small Outline Integrated Circuit, Body 4.9 x 3.9 mm, Pitch 1.27 mm; Supplier 1: Digi-Key; Supplier Part Number 1: LM258DR2GOSTR-ND; Supplier 2: Digi-Key; Supplier Part Number 2: LM258DR2GOSCT-ND; Supplier 3: Digi-Key; Supplier Part Number 3: LM258DR2GOSDKR-ND; Supplier 4: Newark; Supplier Part Number 4: 98H0559; Supplier 5: Mouser; Supplier Part Number 5: 863-LM258DR2G; Packing: Tape and Reel; RoHS: TRUE; Mounting Technology: Surface Mount; ComponentLink1Description: Manufacturer URL; ComponentLink1URL: http://www.onsemi.com/; ComponentLink2Description: Datasheet; ComponentLink2URL: http://www.onsemi.cn/pub_link/Collateral/LM358-D.PDF; ComponentLink3Description: Package Specification; ComponentLink3URL: http://www.onsemi.com/pub_link/Collateral/751-07.PDF
footprint ONSC-SOIC-8-751-07_V (SOIC, 8-Leads, Body 4.9x3.9mm, Pitch 1.27mm)
pins on every part: 4 VEE/GND (power), 8 VCC (power)
part A pins: 1 OUTA (out), 2 INA- (in), 3 INA+ (in)
part B pins: 5 INB+ (in), 6 INB- (in), 7 OUTB (out)

## LM258N
designator U?
Single Supply Dual Operational Amplifier, 3 to 32 V, -25 to 85 degC, 8-Pin PDIP, Tube; Manufacturer: On Semiconductor; PartNumber: LM258N; VCC Max (V): 32; VCC Min (V): 3; DatasheetVersion: Rev. 27; PackageVersion: Rev. M, 04/2010; PackageReference: PDIP-8-626-05; PackageDescription: 8-Pin Plastic Dual-In Line Package, Body 9.52 x 6.605 mm, Pitch 2.54 mm; Packing: Tube; RoHS: FALSE; Mounting Technology: Through Hole; ComponentLink1Description: Manufacturer URL; ComponentLink1URL: http://www.onsemi.com/; ComponentLink2Description: Datasheet; ComponentLink2URL: http://www.onsemi.cn/pub_link/Collateral/LM358-D.PDF; ComponentLink3Description: Package Specification; ComponentLink3URL: http://www.onsemi.com/pub_link/Collateral/LM211-D.PDF
footprint ONSC-PDIP-8-626-05_M (DIP, 8-Leads, Body 10x7.1mm, Pitch 2.54mm)
pins on every part: 4 VEE/GND (power), 8 VCC (power)
part A pins: 1 OUTA (out), 2 INA- (in), 3 INA+ (in)
part B pins: 5 INB+ (in), 6 INB- (in), 7 OUTB (out)

## LM258NG
designator U?
Single Supply Dual Operational Amplifier, 3 to 32 V, -25 to 85 degC, 8-Pin PDIP, Pb-Free, Tube; Manufacturer: On Semiconductor; PartNumber: LM258NG; VCC Max (V): 32; VCC Min (V): 3; DatasheetVersion: Rev. 27; PackageVersion: Rev. M, 04/2010; PackageReference: PDIP-8-626-05; PackageDescription: 8-Pin Plastic Dual-In Line Package, Body 9.52 x 6.605 mm, Pitch 2.54 mm; Supplier 1: Digi-Key; Supplier Part Number 1: LM258NGOS-ND; Supplier 2: Farnell; Supplier Part Number 2: 9665412; Supplier 3: Newark; Supplier Part Number 3: 45J0718; Supplier 4: Mouser; Supplier Part Number 4: 863-LM258NG; Packing: Tube; RoHS: TRUE; Mounting Technology: Through Hole; ComponentLink1Description: Manufacturer URL; ComponentLink1URL: http://www.onsemi.com/; ComponentLink2Description: Datasheet; ComponentLink2URL: http://www.onsemi.cn/pub_link/Collateral/LM358-D.PDF; ComponentLink3Description: Package Specification; ComponentLink3URL: http://www.onsemi.com/pub_link/Collateral/LM211-D.PDF
footprint ONSC-PDIP-8-626-05_M (DIP, 8-Leads, Body 10x7.1mm, Pitch 2.54mm)
pins on every part: 4 VEE/GND (power), 8 VCC (power)
part A pins: 1 OUTA (out), 2 INA- (in), 3 INA+ (in)
part B pins: 5 INB+ (in), 6 INB- (in), 7 OUTB (out)

## LM301AD
designator U?
Non Compensated Single Operational Amplifier, 0 to 70 degC, 8-Pin SOIC, Tube; Manufacturer: On Semiconductor; PartNumber: LM301AD; DatasheetVersion: Rev. 11; PackageVersion: Rev. AK, 02/2011; PackageReference: SOIC-8-751-07; PackageDescription: 8-Pin Small Outline Integrated Circuit, Body 4.9 x 3.9 mm, Pitch 1.27 mm; Packing: Tube; RoHS: FALSE; Mounting Technology: Surface Mount; ComponentLink1Description: Manufacturer URL; ComponentLink1URL: http://www.onsemi.com/; ComponentLink2Description: Datasheet; ComponentLink2URL: http://www.onsemi.cn/pub_link/Collateral/LM301A-D.PDF; ComponentLink3Description: Package Specification; ComponentLink3URL: http://www.onsemi.com/pub_link/Collateral/751-07.PDF
footprint ONSC-SOIC-8-751-07_V (SOIC, 8-Leads, Body 4.9x3.9mm, Pitch 1.27mm)
pins: 1 BALANCE, 2 IN- (in), 3 IN+ (in), 4 VEE (power), 5 BALANCE, 6 OUT (out), 7 VCC (power), 8 COMPENSATION

## LM301ADG
designator U?
Non Compensated Single Operational Amplifier, 0 to 70 degC, 8-Pin SOIC, Pb-Free, Tube; Manufacturer: On Semiconductor; PartNumber: LM301ADG; DatasheetVersion: Rev. 11; PackageVersion: Rev. AK, 02/2011; PackageReference: SOIC-8-751-07; PackageDescription: 8-Pin Small Outline Integrated Circuit, Body 4.9 x 3.9 mm, Pitch 1.27 mm; Supplier 1: Digi-Key; Supplier Part Number 1: LM301ADGOS-ND; Supplier 2: Newark; Supplier Part Number 2: 45J0731; Supplier 3: Mouser; Supplier Part Number 3: 863-LM301ADG; Packing: Tube; RoHS: TRUE; Mounting Technology: Surface Mount; ComponentLink1Description: Manufacturer URL; ComponentLink1URL: http://www.onsemi.com/; ComponentLink2Description: Datasheet; ComponentLink2URL: http://www.onsemi.cn/pub_link/Collateral/LM301A-D.PDF; ComponentLink3Description: Package Specification; ComponentLink3URL: http://www.onsemi.com/pub_link/Collateral/751-07.PDF
footprint ONSC-SOIC-8-751-07_V (SOIC, 8-Leads, Body 4.9x3.9mm, Pitch 1.27mm)
pins: 1 BALANCE, 2 IN- (in), 3 IN+ (in), 4 VEE (power), 5 BALANCE, 6 OUT (out), 7 VCC (power), 8 COMPENSATION

## LM301ADR2
designator U?
Non Compensated Single Operational Amplifier, 0 to 70 degC, 8-Pin SOIC, Tape and Reel; Manufacturer: On Semiconductor; PartNumber: LM301ADR2; DatasheetVersion: Rev. 11; PackageVersion: Rev. AK, 02/2011; PackageReference: SOIC-8-751-07; PackageDescription: 8-Pin Small Outline Integrated Circuit, Body 4.9 x 3.9 mm, Pitch 1.27 mm; Supplier 1: Digi-Key; Supplier Part Number 1: LM301ADR2-ND; Packing: Tape and Reel; RoHS: FALSE; Mounting Technology: Surface Mount; ComponentLink1Description: Manufacturer URL; ComponentLink1URL: http://www.onsemi.com/; ComponentLink2Description: Datasheet; ComponentLink2URL: http://www.onsemi.cn/pub_link/Collateral/LM301A-D.PDF; ComponentLink3Description: Package Specification; ComponentLink3URL: http://www.onsemi.com/pub_link/Collateral/751-07.PDF
footprint ONSC-SOIC-8-751-07_V (SOIC, 8-Leads, Body 4.9x3.9mm, Pitch 1.27mm)
pins: 1 BALANCE, 2 IN- (in), 3 IN+ (in), 4 VEE (power), 5 BALANCE, 6 OUT (out), 7 VCC (power), 8 COMPENSATION

## LM301ADR2G
designator U?
Non Compensated Single Operational Amplifier, 0 to 70 degC, 8-Pin SOIC, Pb-Free, Tape and Reel; Manufacturer: On Semiconductor; PartNumber: LM301ADR2G; DatasheetVersion: Rev. 11; PackageVersion: Rev. AK, 02/2011; PackageReference: SOIC-8-751-07; PackageDescription: 8-Pin Small Outline Integrated Circuit, Body 4.9 x 3.9 mm, Pitch 1.27 mm; Supplier 1: Digi-Key; Supplier Part Number 1: LM301ADR2GOSTR-ND; Supplier 2: Digi-Key; Supplier Part Number 2: LM301ADR2GOSCT-ND; Supplier 3: Mouser; Supplier Part Number 3: 863-LM301ADR2G; Packing: Tape and Reel; RoHS: TRUE; Mounting Technology: Surface Mount; ComponentLink1Description: Manufacturer URL; ComponentLink1URL: http://www.onsemi.com/; ComponentLink2Description: Datasheet; ComponentLink2URL: http://www.onsemi.cn/pub_link/Collateral/LM301A-D.PDF; ComponentLink3Description: Package Specification; ComponentLink3URL: http://www.onsemi.com/pub_link/Collateral/751-07.PDF
footprint ONSC-SOIC-8-751-07_V (SOIC, 8-Leads, Body 4.9x3.9mm, Pitch 1.27mm)
pins: 1 BALANCE, 2 IN- (in), 3 IN+ (in), 4 VEE (power), 5 BALANCE, 6 OUT (out), 7 VCC (power), 8 COMPENSATION

## LM301AN
designator U?
Non Compensated Single Operational Amplifier, 0 to 70 degC, 8-Pin PDIP, Tube; Manufacturer: On Semiconductor; PartNumber: LM301AN; DatasheetVersion: Rev. 11; PackageVersion: Rev. M, 04/2010; PackageReference: PDIP-8-626-05; PackageDescription: 8-Pin Plastic Dual-In Line Package, Body 9.52 x 6.605 mm, Pitch 2.54 mm; Packing: Tube; RoHS: FALSE; Mounting Technology: Through Hole; ComponentLink1Description: Manufacturer URL; ComponentLink1URL: http://www.onsemi.com/; ComponentLink2Description: Datasheet; ComponentLink2URL: http://www.onsemi.cn/pub_link/Collateral/LM301A-D.PDF; ComponentLink3Description: Package Specification; ComponentLink3URL: http://www.onsemi.com/pub_link/Collateral/LM211-D.PDF
footprint ONSC-PDIP-8-626-05_M (DIP, 8-Leads, Body 10x7.1mm, Pitch 2.54mm)
pins: 1 BALANCE, 2 IN- (in), 3 IN+ (in), 4 VEE (power), 5 BALANCE, 6 OUT (out), 7 VCC (power), 8 COMPENSATION

## LM301ANG
designator U?
Non Compensated Single Operational Amplifier, 0 to 70 degC, 8-Pin PDIP, Pb-Free, Tube; Manufacturer: On Semiconductor; PartNumber: LM301ANG; DatasheetVersion: Rev. 11; PackageVersion: Rev. M, 04/2010; PackageReference: PDIP-8-626-05; PackageDescription: 8-Pin Plastic Dual-In Line Package, Body 9.52 x 6.605 mm, Pitch 2.54 mm; Supplier 1: Digi-Key; Supplier Part Number 1: LM301ANGOS-ND; Supplier 2: Newark; Supplier Part Number 2: 26K3624; Packing: Tube; RoHS: TRUE; Mounting Technology: Through Hole; ComponentLink1Description: Manufacturer URL; ComponentLink1URL: http://www.onsemi.com/; ComponentLink2Description: Datasheet; ComponentLink2URL: http://www.onsemi.cn/pub_link/Collateral/LM301A-D.PDF; ComponentLink3Description: Package Specification; ComponentLink3URL: http://www.onsemi.com/pub_link/Collateral/LM211-D.PDF
footprint ONSC-PDIP-8-626-05_M (DIP, 8-Leads, Body 10x7.1mm, Pitch 2.54mm)
pins: 1 BALANCE, 2 IN- (in), 3 IN+ (in), 4 VEE (power), 5 BALANCE, 6 OUT (out), 7 VCC (power), 8 COMPENSATION

## LM324ADG
designator U?
Single Supply Quad Operational Amplifier, 3 to 32 V, 0 to 70 degC, 14-Pin SOIC, Pb-Free, Tube; Manufacturer: On Semiconductor; PartNumber: LM324ADG; VCC Max (V): 32; VCC Min (V): 3; DatasheetVersion: Rev. 25; PackageVersion: Rev. K, 05/2011; PackageReference: SOIC-14-751A-03; PackageDescription: 14-Pin Small Outline Integrated Circuit, Body 8.65 x 3.9 mm, Pitch 1.27 mm; Supplier 1: Digi-Key; Supplier Part Number 1: LM324ADGOS-ND; Supplier 2: Farnell; Supplier Part Number 2: 1468706; Supplier 3: Mouser; Supplier Part Number 3: 863-LM324ADG; Packing: Tube; RoHS: TRUE; Mounting Technology: Surface Mount; ComponentLink1Description: Manufacturer URL; ComponentLink1URL: http://www.onsemi.com/; ComponentLink2Description: Datasheet; ComponentLink2URL: http://www.onsemi.cn/pub_link/Collateral/LM324-D.PDF; ComponentLink3Description: Package Specification; ComponentLink3URL: http://www.onsemi.com/pub_link/Collateral/751A-03.PDF
footprint ONSC-SOIC-14-751A-03_V (SOIC, 14-Leads, Body 8.75x4mm, Pitch 1.27mm)
pins on every part: 4 VCC (power), 11 VEE/GND (power)
part A pins: 1 OUT1 (out), 2 IN1- (in), 3 IN1+ (in)
part B pins: 5 IN2+ (in), 6 IN2- (in), 7 OUT2 (out)
part C pins: 8 OUT3 (out), 9 IN3- (in), 10 IN3+ (in)
part D pins: 12 IN4+ (in), 13 IN4- (in), 14 OUT4 (out)

## LM324ADR2
designator U?
Single Supply Quad Operational Amplifier, 3 to 32 V, 0 to 70 degC, 14-Pin SOIC, Tape and Reel; Manufacturer: On Semiconductor; PartNumber: LM324ADR2; VCC Max (V): 32; VCC Min (V): 3; DatasheetVersion: Rev. 25; PackageVersion: Rev. K, 05/2011; PackageReference: SOIC-14-751A-03; PackageDescription: 14-Pin Small Outline Integrated Circuit, Body 8.65 x 3.9 mm, Pitch 1.27 mm; Supplier 1: Digi-Key; Supplier Part Number 1: LM324ADR2OSCT-ND; Supplier 2: Digi-Key; Supplier Part Number 2: LM324ADR2OSDKR-ND; Packing: Tape and Reel; RoHS: FALSE; Mounting Technology: Surface Mount; ComponentLink1Description: Manufacturer URL; ComponentLink1URL: http://www.onsemi.com/; ComponentLink2Description: Datasheet; ComponentLink2URL: http://www.onsemi.cn/pub_link/Collateral/LM324-D.PDF; ComponentLink3Description: Package Specification; ComponentLink3URL: http://www.onsemi.com/pub_link/Collateral/751A-03.PDF
footprint ONSC-SOIC-14-751A-03_V (SOIC, 14-Leads, Body 8.75x4mm, Pitch 1.27mm)
pins on every part: 4 VCC (power), 11 VEE/GND (power)
part A pins: 1 OUT1 (out), 2 IN1- (in), 3 IN1+ (in)
part B pins: 5 IN2+ (in), 6 IN2- (in), 7 OUT2 (out)
part C pins: 8 OUT3 (out), 9 IN3- (in), 10 IN3+ (in)
part D pins: 12 IN4+ (in), 13 IN4- (in), 14 OUT4 (out)

## LM324ADR2G
designator U?
Single Supply Quad Operational Amplifier, 3 to 32 V, 0 to 70 degC, 14-Pin SOIC, Pb-Free, Tape and Reel; Manufacturer: On Semiconductor; PartNumber: LM324ADR2G; VCC Max (V): 32; VCC Min (V): 3; DatasheetVersion: Rev. 25; PackageVersion: Rev. K, 05/2011; PackageReference: SOIC-14-751A-03; PackageDescription: 14-Pin Small Outline Integrated Circuit, Body 8.65 x 3.9 mm, Pitch 1.27 mm; Supplier 1: Digi-Key; Supplier Part Number 1: LM324ADR2GOSTR-ND; Supplier 2: Digi-Key; Supplier Part Number 2: LM324ADR2GOSCT-ND; Supplier 3: Digi-Key; Supplier Part Number 3: LM324ADR2GOSDKR-ND; Supplier 4: Farnell; Supplier Part Number 4: 1278482; Supplier 5: Newark; Supplier Part Number 5: 84K8733; Supplier 6: Newark; Supplier Part Number 6: 98H0573; Supplier 7: Mouser; Supplier Part Number 7: 863-LM324ADR2G; Packing: Tape and Reel; RoHS: TRUE; Mounting Technology: Surface Mount; ComponentLink1Description: Manufacturer URL; ComponentLink1URL: http://www.onsemi.com/; ComponentLink2Description: Datasheet; ComponentLink2URL: http://www.onsemi.cn/pub_link/Collateral/LM324-D.PDF; ComponentLink3Description: Package Specification; ComponentLink3URL: http://www.onsemi.com/pub_link/Collateral/751A-03.PDF
footprint ONSC-SOIC-14-751A-03_V (SOIC, 14-Leads, Body 8.75x4mm, Pitch 1.27mm)
pins on every part: 4 VCC (power), 11 VEE/GND (power)
part A pins: 1 OUT1 (out), 2 IN1- (in), 3 IN1+ (in)
part B pins: 5 IN2+ (in), 6 IN2- (in), 7 OUT2 (out)
part C pins: 8 OUT3 (out), 9 IN3- (in), 10 IN3+ (in)
part D pins: 12 IN4+ (in), 13 IN4- (in), 14 OUT4 (out)

## LM324ADTBG
designator U?
Single Supply Quad Operational Amplifier, 3 to 32 V, 0 to 70 degC, 14-Pin TSSOP, Pb-Free, Tube; Manufacturer: On Semiconductor; PartNumber: LM324ADTBG; VCC Max (V): 32; VCC Min (V): 3; DatasheetVersion: Rev. 25; PackageVersion: Rev. B, 10/2006; PackageReference: TSSOP-14-948G-01; PackageDescription: 14-Pin Small Outline Package, Body 5 x 4.4 mm, Pitch 0.65 mm; Supplier 1: Digi-Key; Supplier Part Number 1: LM324ADTBG-ND; Supplier 2: Newark; Supplier Part Number 2: 41K9882; Supplier 3: Mouser; Supplier Part Number 3: 863-LM324ADTBG; Packing: Tube; RoHS: TRUE; Mounting Technology: Surface Mount; ComponentLink1Description: Manufacturer URL; ComponentLink1URL: http://www.onsemi.com/; ComponentLink2Description: Datasheet; ComponentLink2URL: http://www.onsemi.cn/pub_link/Collateral/LM324-D.PDF; ComponentLink3Description: Package Specification; ComponentLink3URL: http://www.onsemi.com/pub_link/Collateral/948G-01.PDF
footprint ONSC-TSSOP-14-948G-01_V (SOP, 14-Leads, Body 5.1x4.5mm, Pitch 0.65mm)
pins on every part: 4 VCC (power), 11 VEE/GND (power)
part A pins: 1 OUT1 (out), 2 IN1- (in), 3 IN1+ (in)
part B pins: 5 IN2+ (in), 6 IN2- (in), 7 OUT2 (out)
part C pins: 8 OUT3 (out), 9 IN3- (in), 10 IN3+ (in)
part D pins: 12 IN4+ (in), 13 IN4- (in), 14 OUT4 (out)

## LM324ADTBR2G
designator U?
Single Supply Quad Operational Amplifier, 3 to 32 V, 0 to 70 degC, 14-Pin TSSOP, Pb-Free, Tape and Reel; Manufacturer: On Semiconductor; PartNumber: LM324ADTBR2G; VCC Max (V): 32; VCC Min (V): 3; DatasheetVersion: Rev. 25; PackageVersion: Rev. B, 10/2006; PackageReference: TSSOP-14-948G-01; PackageDescription: 14-Pin Small Outline Package, Body 5 x 4.4 mm, Pitch 0.65 mm; Supplier 1: Digi-Key; Supplier Part Number 1: LM324ADTBR2GOSTR-ND; Supplier 2: Digi-Key; Supplier Part Number 2: LM324ADTBR2GOSCT-ND; Supplier 3: Digi-Key; Supplier Part Number 3: LM324ADTBR2GOSDKR-ND; Supplier 4: Newark; Supplier Part Number 4: 41K9883; Supplier 5: Mouser; Supplier Part Number 5: 863-LM324ADTBR2G; Packing: Tape and Reel; RoHS: TRUE; Mounting Technology: Surface Mount; ComponentLink1Description: Manufacturer URL; ComponentLink1URL: http://www.onsemi.com/; ComponentLink2Description: Datasheet; ComponentLink2URL: http://www.onsemi.cn/pub_link/Collateral/LM324-D.PDF; ComponentLink3Description: Package Specification; ComponentLink3URL: http://www.onsemi.com/pub_link/Collateral/948G-01.PDF
footprint ONSC-TSSOP-14-948G-01_V (SOP, 14-Leads, Body 5.1x4.5mm, Pitch 0.65mm)
pins on every part: 4 VCC (power), 11 VEE/GND (power)
part A pins: 1 OUT1 (out), 2 IN1- (in), 3 IN1+ (in)
part B pins: 5 IN2+ (in), 6 IN2- (in), 7 OUT2 (out)
part C pins: 8 OUT3 (out), 9 IN3- (in), 10 IN3+ (in)
part D pins: 12 IN4+ (in), 13 IN4- (in), 14 OUT4 (out)

## LM324ANG
designator U?
Single Supply Quad Operational Amplifier, 3 to 32 V, 0 to 70 degC, 14-Pin PDIP, Pb-Free, Tube; Manufacturer: On Semiconductor; PartNumber: LM324ANG; VCC Max (V): 32; VCC Min (V): 3; DatasheetVersion: Rev. 25; PackageVersion: Rev. R, 06/2013; PackageReference: PDIP-14-646-06; PackageDescription: 14-Pin Plastic Dual-In Line Package, Body 19.18 x 6.605 mm, Pitch 2.54 mm; Supplier 1: Digi-Key; Supplier Part Number 1: LM324ANGOS-ND; Supplier 2: Farnell; Supplier Part Number 2: 1214466; Supplier 3: Newark; Supplier Part Number 3: 98H0574; Packing: Tube; RoHS: TRUE; Mounting Technology: Through Hole; ComponentLink1Description: Manufacturer URL; ComponentLink1URL: http://www.onsemi.com/; ComponentLink2Description: Datasheet; ComponentLink2URL: http://www.onsemi.cn/pub_link/Collateral/LM324-D.PDF; ComponentLink3Description: Package Specification; ComponentLink3URL: http://www.onsemi.com/pub_link/Collateral/646-06.PDF
footprint ONSC-PDIP-14-646-06 (DIP, 14-Leads, Body 19.7x7.1mm, Pitch 2.54mm)
pins on every part: 4 VCC (power), 11 VEE/GND (power)
part A pins: 1 OUT1 (out), 2 IN1- (in), 3 IN1+ (in)
part B pins: 5 IN2+ (in), 6 IN2- (in), 7 OUT2 (out)
part C pins: 8 OUT3 (out), 9 IN3- (in), 10 IN3+ (in)
part D pins: 12 IN4+ (in), 13 IN4- (in), 14 OUT4 (out)

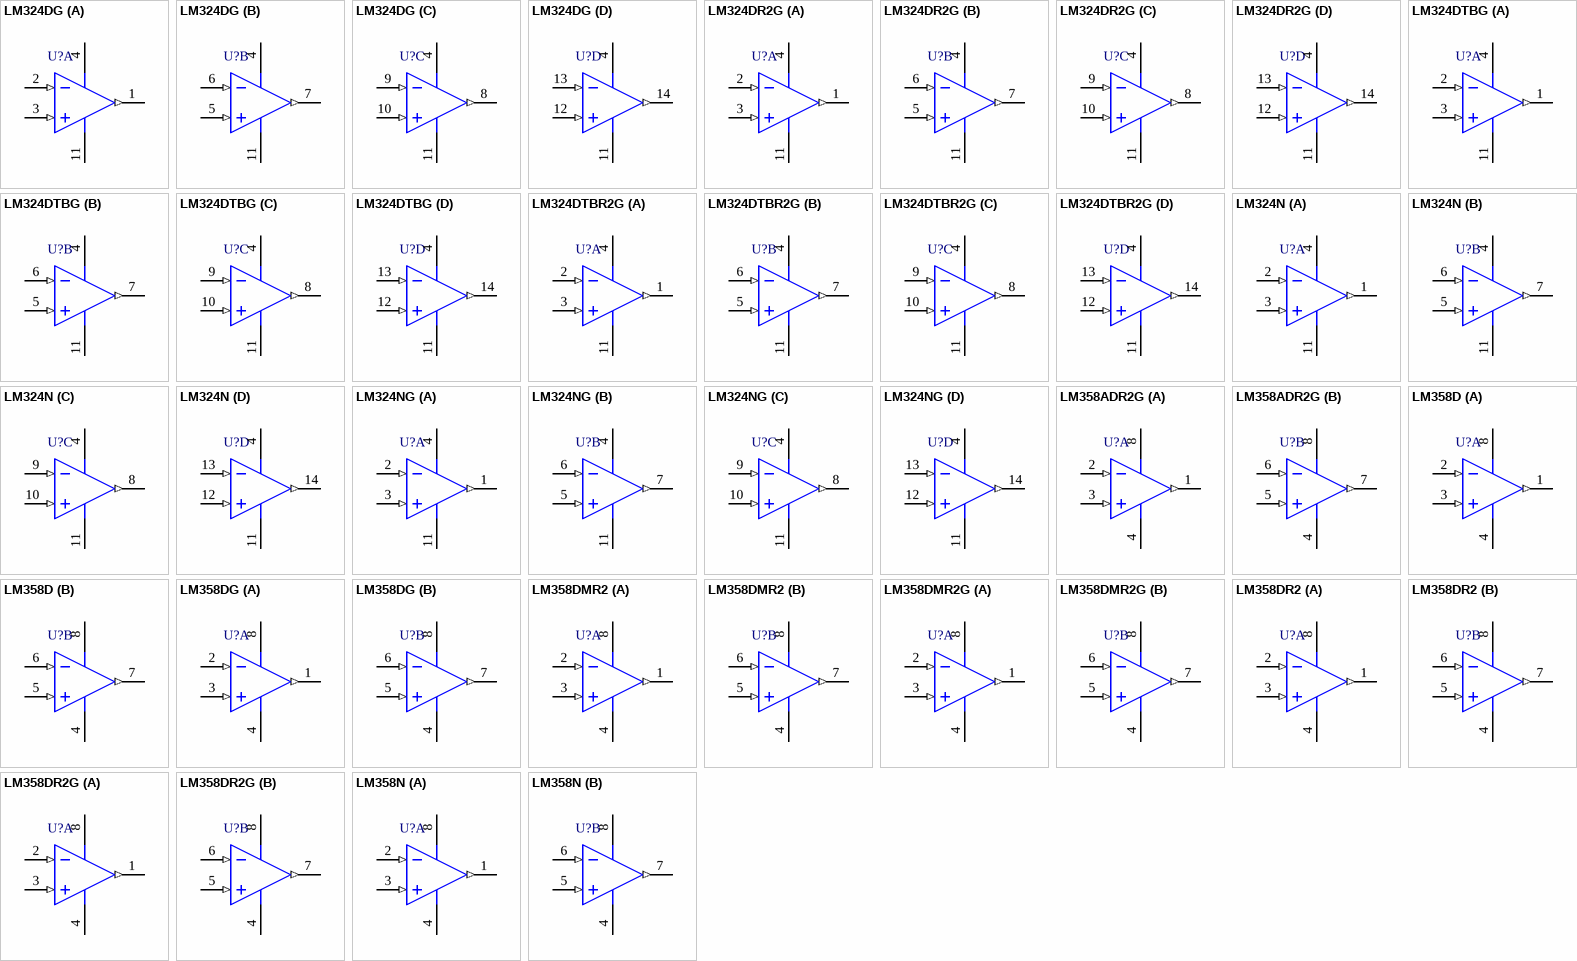
[diagram p2: symbols LM324DG to LM358N]

## LM324DG
designator U?
Single Supply Quad Operational Amplifier, 3 to 32 V, 0 to 70 degC, 14-Pin SOIC, Pb-Free, Tube; Manufacturer: On Semiconductor; PartNumber: LM324DG; VCC Max (V): 32; VCC Min (V): 3; DatasheetVersion: Rev. 25; PackageVersion: Rev. K, 05/2011; PackageReference: SOIC-14-751A-03; PackageDescription: 14-Pin Small Outline Integrated Circuit, Body 8.65 x 3.9 mm, Pitch 1.27 mm; Supplier 1: Digi-Key; Supplier Part Number 1: LM324DGOS-ND; Supplier 2: Farnell; Supplier Part Number 2: 1211103; Supplier 3: Newark; Supplier Part Number 3: 45J0744; Supplier 4: Mouser; Supplier Part Number 4: 863-LM324DG; Packing: Tube; RoHS: TRUE; Mounting Technology: Surface Mount; ComponentLink1Description: Manufacturer URL; ComponentLink1URL: http://www.onsemi.com/; ComponentLink2Description: Datasheet; ComponentLink2URL: http://www.onsemi.cn/pub_link/Collateral/LM324-D.PDF; ComponentLink3Description: Package Specification; ComponentLink3URL: http://www.onsemi.com/pub_link/Collateral/751A-03.PDF
footprint ONSC-SOIC-14-751A-03_V (SOIC, 14-Leads, Body 8.75x4mm, Pitch 1.27mm)
pins on every part: 4 VCC (power), 11 VEE/GND (power)
part A pins: 1 OUT1 (out), 2 IN1- (in), 3 IN1+ (in)
part B pins: 5 IN2+ (in), 6 IN2- (in), 7 OUT2 (out)
part C pins: 8 OUT3 (out), 9 IN3- (in), 10 IN3+ (in)
part D pins: 12 IN4+ (in), 13 IN4- (in), 14 OUT4 (out)

## LM324DR2G
designator U?
Single Supply Quad Operational Amplifier, 3 to 32 V, 0 to 70 degC, 14-Pin SOIC, Pb-Free, Tape and Reel; Manufacturer: On Semiconductor; PartNumber: LM324DR2G; VCC Max (V): 32; VCC Min (V): 3; DatasheetVersion: Rev. 25; PackageVersion: Rev. K, 05/2011; PackageReference: SOIC-14-751A-03; PackageDescription: 14-Pin Small Outline Integrated Circuit, Body 8.65 x 3.9 mm, Pitch 1.27 mm; Supplier 1: Digi-Key; Supplier Part Number 1: LM324DR2GOSTR-ND; Supplier 2: Digi-Key; Supplier Part Number 2: LM324DR2GOSCT-ND; Supplier 3: Digi-Key; Supplier Part Number 3: LM324DR2GOSDKR-ND; Supplier 4: Farnell; Supplier Part Number 4: 2295979; Supplier 5: Newark; Supplier Part Number 5: 84K8734; Supplier 6: Mouser; Supplier Part Number 6: 863-LM324DR2G; Packing: Tape and Reel; RoHS: TRUE; Mounting Technology: Surface Mount; ComponentLink1Description: Manufacturer URL; ComponentLink1URL: http://www.onsemi.com/; ComponentLink2Description: Datasheet; ComponentLink2URL: http://www.onsemi.cn/pub_link/Collateral/LM324-D.PDF; ComponentLink3Description: Package Specification; ComponentLink3URL: http://www.onsemi.com/pub_link/Collateral/751A-03.PDF
footprint ONSC-SOIC-14-751A-03_V (SOIC, 14-Leads, Body 8.75x4mm, Pitch 1.27mm)
pins on every part: 4 VCC (power), 11 VEE/GND (power)
part A pins: 1 OUT1 (out), 2 IN1- (in), 3 IN1+ (in)
part B pins: 5 IN2+ (in), 6 IN2- (in), 7 OUT2 (out)
part C pins: 8 OUT3 (out), 9 IN3- (in), 10 IN3+ (in)
part D pins: 12 IN4+ (in), 13 IN4- (in), 14 OUT4 (out)